# Altium footprint library 遥控3.2.PcbLib: 18 footprints (part 2 of 2)
Each footprint in its own frame and in the unit in brackets; x right, y up, seen from the top. Pads: shape width x height; smd on the part's side, far side on the other; paste and mask are expansions set on the pad; w line width, h text height; cw(c..) or ccw(c..) is an arc to the next point about the centre after c.
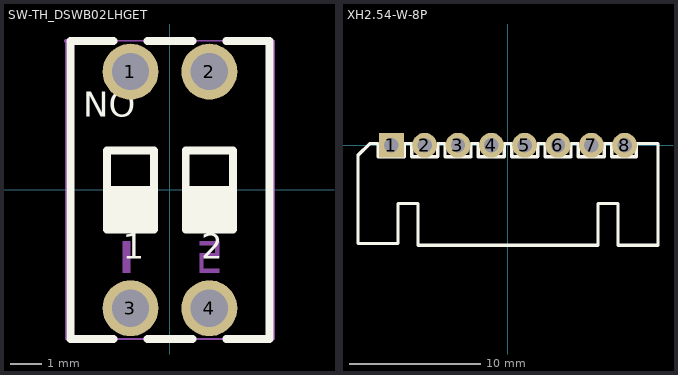
[diagram p1: the footprints below, top view; thin cyan lines are the x and y axes]

## SW-TH_DSWB02LHGET [mm]
pads (4):
  round 1.8 hole 1.2: 1(-1.27,3.81) 2(1.27,3.81) 3(-1.27,-3.81) 4(1.27,-3.81)
Top Overlay:
  lines w0.254: -2.032,-1.016 -0.508,-1.016 ; -2.032,-0.762 -0.508,-0.762 ; -2.032,-0.508 -0.508,-0.508 ; -2.032,-0.254 -0.508,-0.254 ; -2.032,0 -0.508,0 ; -1.814,-4.8 -3.2,-4.8 -3.2,4.8 -1.814,4.8 ; -0.726,-4.8 0.726,-4.8 ; -0.726,4.8 0.726,4.8 ; 0.508,-1.016 2.032,-1.016 ; 0.508,-0.762 2.032,-0.762 ; 0.508,-0.508 2.032,-0.508 ; 0.508,-0.254 2.032,-0.254 ; 0.508,0 2.032,0 ; 1.814,-4.8 3.2,-4.8 3.2,4.8 1.814,4.8 ; -2.032,-1.27 -0.508,-1.27 -0.508,1.27 -2.032,1.27 -2.032,-1.27 ; 0.508,-1.27 2.032,-1.27 2.032,1.27 0.508,1.27 0.508,-1.27
  text "NO" at -2.794,2.357 h0.8
  text "1" at -1.524,-2.215 h0.8
  text "2" at 1.016,-2.215 h0.8
Mechanical 2:
  region: -1.524,-1.651 -1.524,-2.667 -1.27,-2.667 -1.27,-1.651
  region: 1.079,-1.651 1.587,-1.651 1.587,-2.159 1.079,-2.159 1.079,-2.54 1.587,-2.54 1.587,-2.667 0.953,-2.667 0.953,-2.032 1.46,-2.032 1.46,-1.778 0.953,-1.778 0.953,-1.651
Mechanical 6:
  lines w0.051: -3.35,-4.8 -3.35,4.8 3.35,4.8 3.35,-4.8 -3.35,-4.8
Mechanical 8:
  region: -3.29,4.8 -3.29,4.775 -3.325,4.74 -3.375,4.74 -3.41,4.775 -3.41,4.8 -3.41,4.825 -3.375,4.86 -3.325,4.86 -3.29,4.825 -3.29,4.8
Mechanical 9:
  region: -0.97,-3.935 -1.57,-3.935 -1.57,-3.685 -0.97,-3.685
  region: 1.57,-3.935 0.97,-3.935 0.97,-3.685 1.57,-3.685
  region: -0.97,3.685 -1.57,3.685 -1.57,3.935 -0.97,3.935
  region: 1.57,3.685 0.97,3.685 0.97,3.935 1.57,3.935

## XH2.54-W-8P [mm] "接插件，8P"
height 7.01
pads (8):
  rect 1.9x1.9 hole 1.1: 1(-8.89,0)
  round 1.9 hole 1.1: 2(-6.35,0) 3(-3.81,0) 4(-1.27,0) 5(1.27,0) 6(3.81,0) 7(6.35,0) 8(8.89,0)
Top Overlay:
  lines w0.254: -7.352,0.127 -7.898,0.127 -7.898,-0.889 -9.906,-0.889 -9.906,0.127 -10.541,0.127 -11.43,-0.762 -11.43,-7.485 -8.382,-7.485 -8.382,-4.445 -6.858,-4.445 -6.858,-7.62 6.858,-7.62 6.858,-4.445 8.382,-4.445 8.382,-7.62 11.43,-7.62 11.43,0.127 9.779,0.127 9.779,-0.762 9.779,-0.875 7.902,-0.875 7.902,0.127 ; -7.338,0.127 -7.338,-0.875 -5.37,-0.875 -5.358,-0.863 -5.358,0.127 -4.812,0.127 ; -4.798,0.127 -4.798,-0.875 -2.83,-0.875 -2.818,-0.863 -2.818,0.127 -2.272,0.127 ; -2.258,0.127 -2.258,-0.875 -0.29,-0.875 -0.278,-0.863 -0.278,0.127 0.268,0.127 ; 0.282,0.127 0.282,-0.875 2.25,-0.875 2.262,-0.863 2.262,0.127 2.808,0.127 ; 2.822,0.127 2.822,-0.875 4.79,-0.875 4.802,-0.863 4.802,0.127 5.348,0.127 ; 5.362,0.127 5.362,-0.875 7.33,-0.875 7.342,-0.863 7.342,0.127 7.888,0.127
3D body "XH2_54-8P_H.STEP": height 2.89, standoff -6.21, extent -11.395,-7.446 11.385,0.254